# EAGLE library part CP2101 (library futz)
Silicon Labs CP2101 Single-Chip USB to UART Bridge
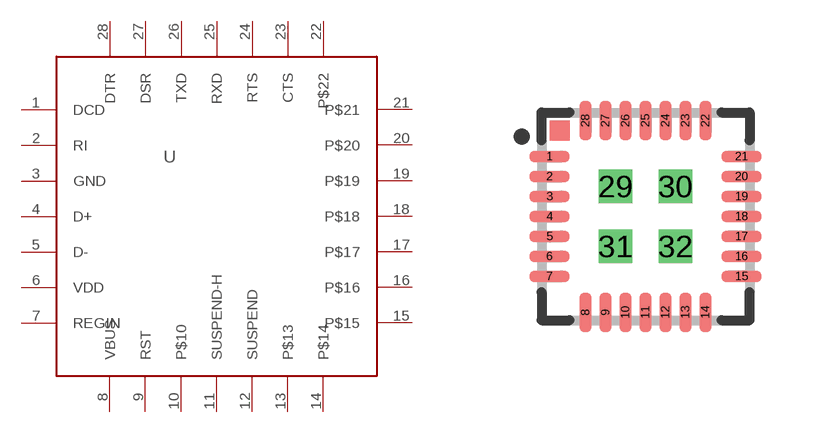
[diagram p6: symbol with the pads of QFN-28; footprint QFN-28]

Designator prefix -

## CP2101  [QFN-28]
1  DCD
2  RI
3  GND  pwr
4  D+
5  D-
6  VDD  pwr
7  REGIN
8  VBUS
9  RST
10  P$10  nc
11  SUSPEND-H
12  SUSPEND
13  P$13  nc
14  P$14  nc
15  P$15  nc
16  P$16  nc
17  P$17  nc
18  P$18  nc
19  P$19  nc
20  P$20  nc
21  P$21  nc
22  P$22  nc
23  CTS
24  RTS
25  RXD
26  TXD
27  DSR
28  DTR

## Footprint QFN-28 (pad centres in mm)
smd 1 x 0.3: 1 -2.4,1.5; 2 -2.4,1; 3 -2.4,0.5; 4 -2.4,0; 5 -2.4,-0.5; 6 -2.4,-1; 7 -2.4,-1.5; 15 2.4,-1.5; 16 2.4,-1; 17 2.4,-0.5; 18 2.4,0; 19 2.4,0.5; 20 2.4,1; 21 2.4,1.5
smd 0.3 x 1: 8 -1.5,-2.4; 9 -1,-2.4; 10 -0.5,-2.4; 11 0,-2.4; 12 0.5,-2.4; 13 1,-2.4; 14 1.5,-2.4; 22 1.5,2.4; 23 1,2.4; 24 0.5,2.4; 25 0,2.4; 26 -0.5,2.4; 27 -1,2.4; 28 -1.5,2.4
drill 0.33 pad 0.7 square: 29 -0.75,0.75; 30 0.75,0.75; 31 -0.75,-0.75; 32 0.75,-0.75